# EAGLE library part M24M02 (library sensor)
The M24M02-DR is a 2 Mb I2C-compatible EEPROM (Electrically Erasable PROgrammable Memory) organized as 256 K × 8 bits. The M24M02-DR can operate with a supply voltage from 1.8 V to 5.5 V, over an ambient temperature range of –40 °C / +85 °C. The M24M02-DR offers an additional page, named the Identification Page (256 bytes). The Identification Page can be used to store sensitive application parameters which can be (later) permanently locked in Read-only mode.
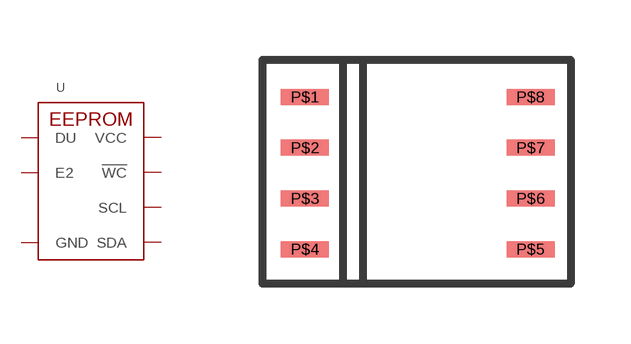
[diagram p6: symbol with the pads of SO8; footprint SO8]

Designator prefix U

## M24M02  [SO8]
P$1  DU
P$2  DU
P$3  E2
P$4  GND  pwr
P$5  SDA
P$6  SCL
P$7  !WC
P$8  VCC  pwr

## Footprint SO8 (pad centres in mm)
smd 1.2 x 0.4: P$1 -2.84,1.67; P$2 -2.84,0.4; P$3 -2.84,-0.87; P$4 -2.84,-2.14; P$5 2.8,-2.14; P$6 2.8,-0.87; P$7 2.8,0.4; P$8 2.8,1.67